# Altium footprint library PTV111-3.PcbLib: 1 footprints
Each footprint in its own frame and in the unit in brackets; x right, y up, seen from the top. Pads: shape width x height; smd on the part's side, far side on the other; paste and mask are expansions set on the pad; w line width, h text height; cw(c..) or ccw(c..) is an arc to the next point about the centre after c.
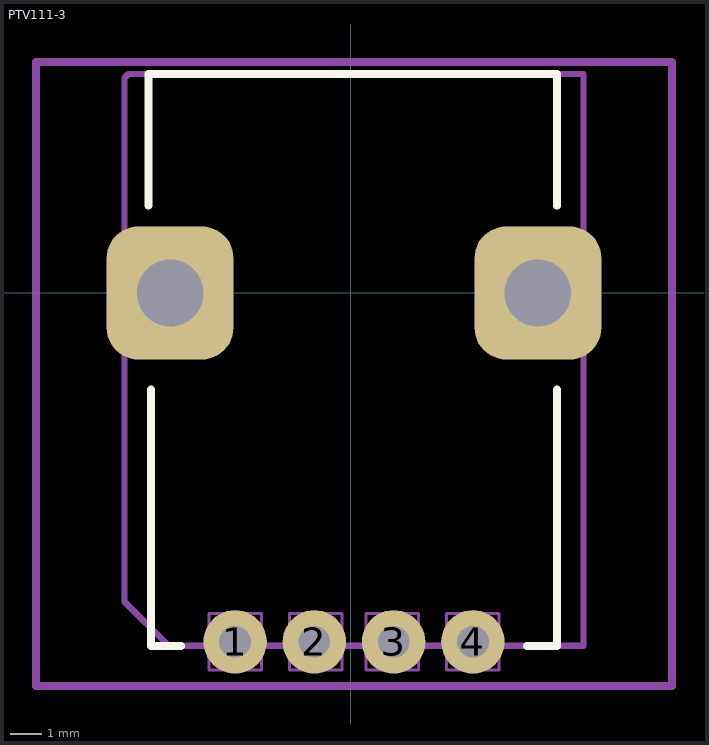
[diagram p0: the footprint, top view; thin cyan lines are the x and y axes]

## PTV111-3 [mm]
pads (6):
  round 2 hole 1: 1(-3.65,-11) 2(-1.15,-11) 3(1.35,-11) 4(3.85,-11)
  rrect50% 4x4.2 hole 2.1 square: ""(-5.7,0) ""(5.9,0)
Top Overlay:
  lines w0.25: -6.377,2.75 -6.377,6.907 3.91,6.907 6.5,6.907 6.5,2.75 ; -6.3,-3.05 -6.3,-11.127 -5.361,-11.127 ; 5.561,-11.127 6.5,-11.127 6.5,-3.05
Mechanical 3:
  lines w0.2: -7.139,-9.73 -7.139,6.78 -7.012,6.907 7.339,6.907 7.339,-11.127 -5.742,-11.127 -7.139,-9.73
Mechanical 5:
  lines w0.1: -6.722,-1.044 -4.627,-1.044 -4.627,1.115 -6.468,1.115 -6.722,1.115 -6.722,-1.044 ; -4.472,-11.889 -4.472,-10.111 -4.218,-10.111 -2.821,-10.111 -2.821,-11.889 -4.472,-11.889 ; -1.932,-11.889 -1.932,-10.111 -1.678,-10.111 -0.281,-10.111 -0.281,-11.889 -1.932,-11.889 ; 0.481,-11.889 0.481,-10.111 0.735,-10.111 2.132,-10.111 2.132,-11.889 0.481,-11.889 ; 3.021,-11.889 3.021,-10.111 3.275,-10.111 4.672,-10.111 4.672,-11.889 3.021,-11.889 ; 4.875,-1.059 6.971,-1.059 6.971,1.1 5.129,1.1 4.875,1.1 4.875,-1.059
Mechanical 7:
  lines w0.25: -9.933,-12.397 10.133,-12.397 10.133,7.288 -9.933,7.288 -9.933,-12.397
Mechanical 9:
  text "'.Designator'" at -6.098,-5.683 h1.02
3D body: height 17.4, standoff 0, extent -9.933,-12.397 10.133,7.288
3D body "ptv111-3220a.stp": height 26.1, standoff -5, extent -7.1,-11.2 7.3,6.6